# Altium schematic symbol library CAP,Film,100nF,310V,X2,Radial.Schlib: 1 symbol
Pins are listed as number, name and electrical type; pins without a type are passive.

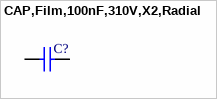
[diagram p0: symbol CAP,Film,100nF,310V,X2,Radial]

## CAP,Film,100nF,310V,X2,Radial
designator C?
Part Name: CAP,Cer,100nF,50VDC,X7R,0805; Manufacturer 1: KEMET; Manufacturer 1 Part Number: C0805C104M5RACTU; Vendor 1 Part Number: 399-1169-1-ND; Vendor 1: Digikey; Value: 100n; CreatedBy: Judd Foster; HelpURL: https://content.kemet.com/datasheets/KEM_C1002_X7R_SMD.pdf
pins: 1, 2